# Altium integrated library 317030213.IntLib: 1 symbol
Pins are listed as number, name and electrical type; pins without a type are passive.

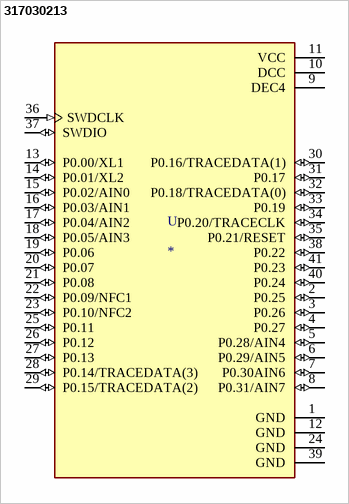
[diagram p0: symbol 317030213]

## 317030213
designator U
Bluetooth Bluetooth v4.2 Transceiver Module 2.4GHz Integrated, Chip Surface Mount; MF: Seeed Technology; MP: 317030213; SnapEDA_Link: https://www.snapeda.com/parts/317030213/Seeed%20Technology%20Co.%2C%20Ltd/view-part/586705/?ref=snap; Digi-Key_Part_Number: 1597-1434-ND; Value: *; Package: SMD-41 Seeed Studio; Digi-Key_Purchase_URL: https://www.digikey.com/product-detail/en/seeed-technology-co-ltd/317030213/1597-1434-ND/6578366?utm_source=snapeda&utm_medium=aggregator&utm_campaign=symbol
footprint XCVR_317030213
pins: 1 GND (power), 2 P0.25 (io), 3 P0.26 (io), 4 P0.27 (io), 5 P0.28/AIN4 (io), 6 P0.29/AIN5 (io), 7 P0.30AIN6 (io), 8 P0.31/AIN7 (io), 9 DEC4 (power), 10 DCC (power), 11 VCC (power), 12 GND (power), 13 P0.00/XL1 (io), 14 P0.01/XL2 (io), 15 P0.02/AIN0 (io), 16 P0.03/AIN1 (io), 17 P0.04/AIN2 (io), 18 P0.05/AIN3 (io), 19 P0.06 (io), 20 P0.07 (io), 21 P0.08 (io), 22 P0.09/NFC1 (io), 23 P0.10/NFC2 (io), 24 GND (power), 25 P0.11 (io), 26 P0.12 (io), 27 P0.13 (io), 28 P0.14/TRACEDATA(3) (io), 29 P0.15/TRACEDATA(2) (io), 30 P0.16/TRACEDATA(1) (io), 31 P0.17 (io), 32 P0.18/TRACEDATA(0) (io), 33 P0.19 (io), 34 P0.20/TRACECLK (io), 35 P0.21/RESET (io), 36 SWDCLK (in), 37 SWDIO (io), 38 P0.22 (io), 39 GND (power), 40 P0.24 (io), 41 P0.23 (io)